# Altium schematic symbol library STguitar.SchLib: 51 symbols
Pins are listed as number, name and electrical type; pins without a type are passive.

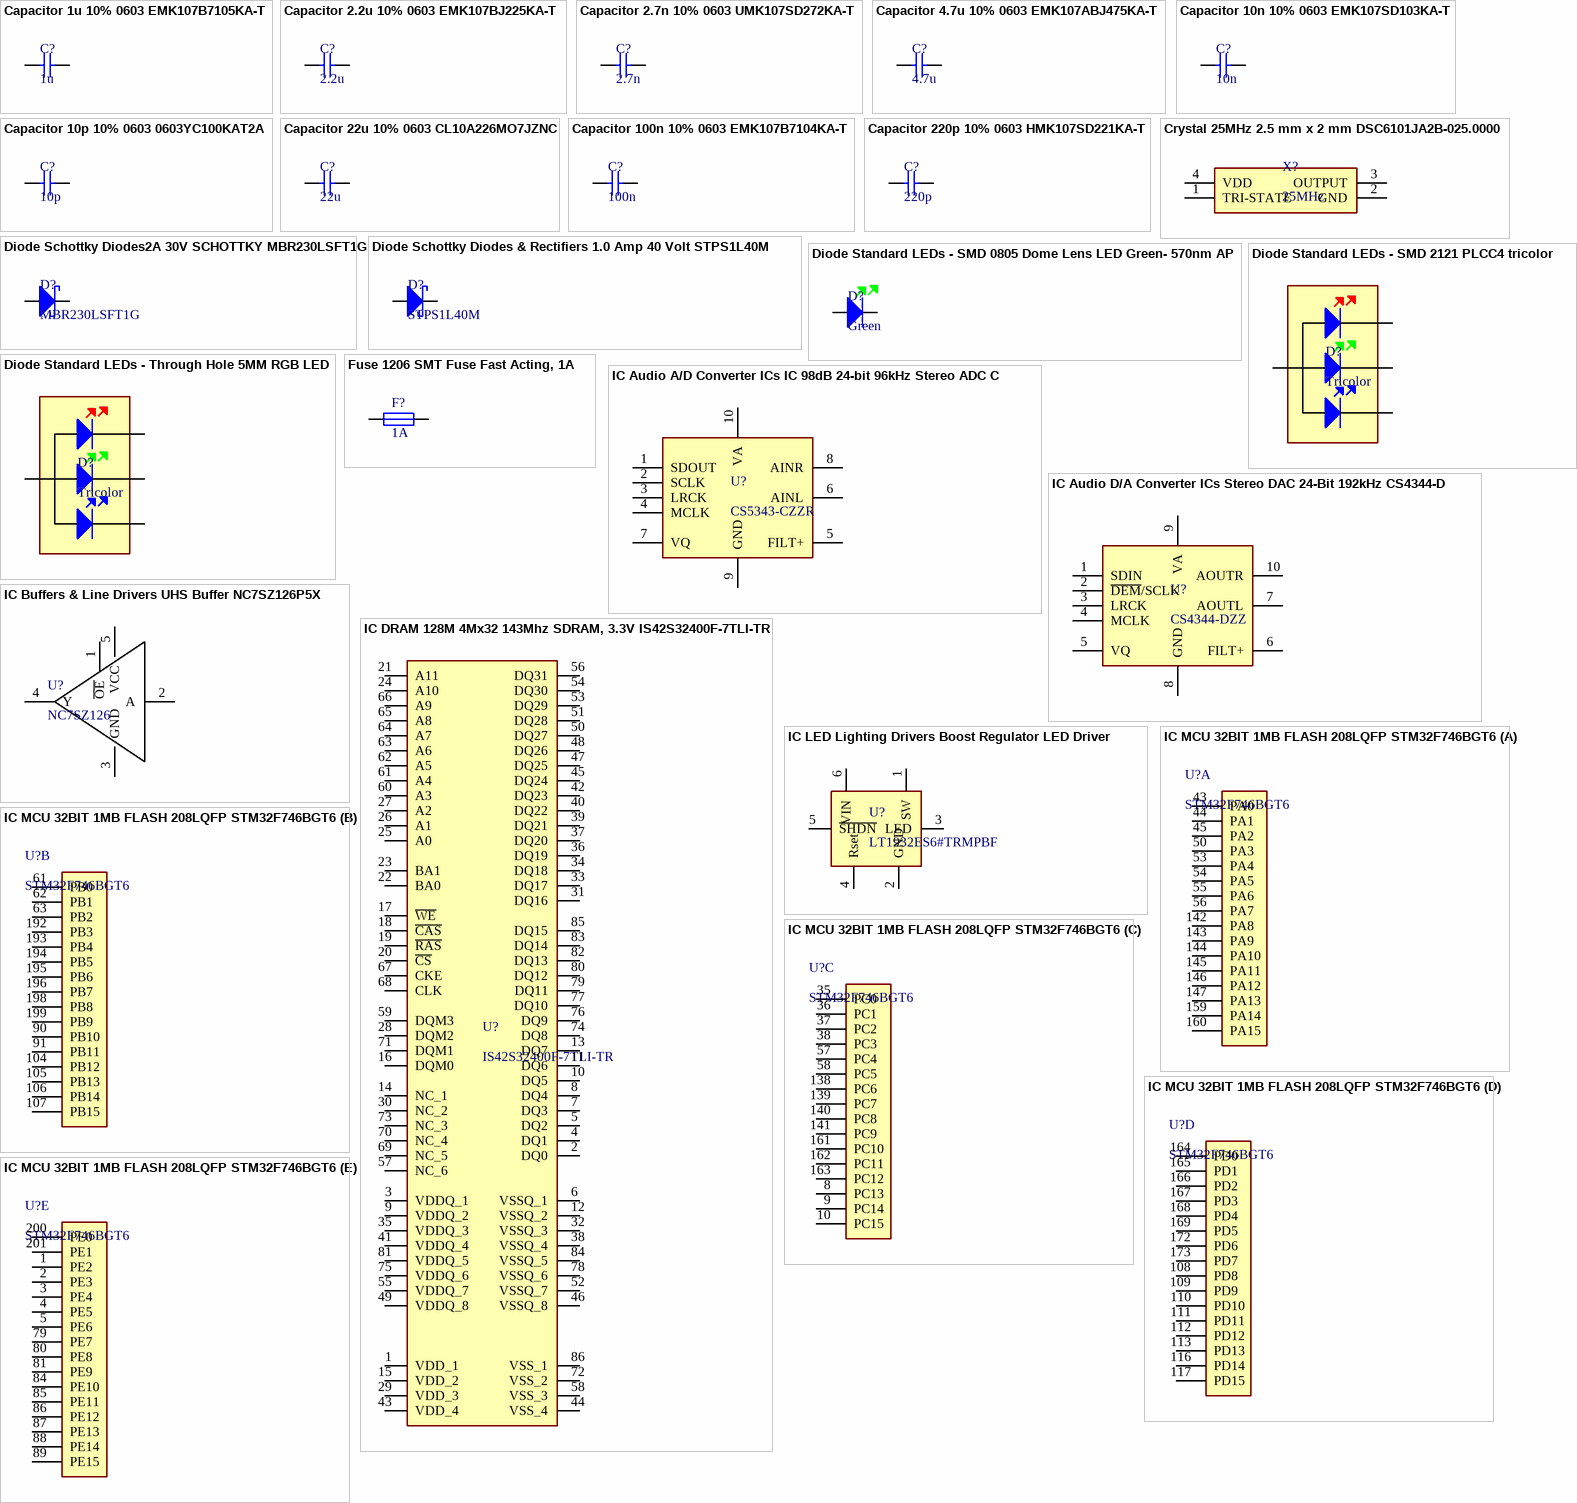
[diagram p0: symbols Capacitor 1u 10% 0603 EMK107B7105KA-T to IC MCU 32BIT 1MB FLASH 208LQFP STM32F746BGT6]

## Capacitor 1u 10% 0603 EMK107B7105KA-T
designator C?, comment 1u
Multilayer Ceramic Capacitors MLCC - SMD/SMT 0603 16VDC 1uF 10% X7R; Manufacturer Part Number: EMK107B7105KA-T; Manufacturer: Taiyo Yuden; Type: SMD; Footprint: 0603; Datasheet: https://pl.mouser.com/datasheet/2/396/mlcc02_e-1307760.pdf
footprint Capacitor 0603
pins: 1, 2

## Capacitor 2.2u 10% 0603 EMK107BJ225KA-T
designator C?, comment 2.2u
Multilayer Ceramic Capacitors MLCC - SMD/SMT 0603 16VDC 2.2uF 10% X5R; Manufacturer Part Number: EMK107BJ225KA-T; Manufacturer: Taiyo Yuden; Type: SMD; Footprint: 0603; Datasheet: https://pl.mouser.com/datasheet/2/396/mlcc02_e-1307760.pdf
footprint Capacitor 0603
pins: 1, 2

## Capacitor 2.7n 10% 0603 UMK107SD272KA-T
designator C?, comment 2.7n
Multilayer Ceramic Capacitors MLCC - SMD/SMT 0603 50VDC 2.7nF 10% Low Distort; Manufacturer Part Number: UMK107SD272KA-T; Manufacturer: Taiyo Yuden; Type: SMD; Footprint: 0603; Datasheet: https://pl.mouser.com/datasheet/2/396/mlcc02_e-1307760.pdf
footprint Capacitor 0603
pins: 1, 2

## Capacitor 4.7u 10% 0603 EMK107ABJ475KA-T
designator C?, comment 4.7u
Multilayer Ceramic Capacitors MLCC - SMD/SMT 0603 16VDC 4.7uF 10% X5R; Manufacturer Part Number: EMK107ABJ475KA-T; Manufacturer: Taiyo Yuden; Type: SMD; Footprint: 0603; Datasheet: https://pl.mouser.com/datasheet/2/396/mlcc02_e-1307760.pdf
footprint Capacitor 0603
pins: 1, 2

## Capacitor 10n 10% 0603 EMK107SD103KA-T
designator C?, comment 10n
Multilayer Ceramic Capacitors MLCC - SMD/SMT 0603 16VDC 10nF 10% Low Distort; Manufacturer Part Number: EMK107SD103KA-T; Manufacturer: Taiyo Yuden; Type: SMD; Footprint: 0603; Datasheet: https://pl.mouser.com/datasheet/2/396/mlcc02_e-1307760.pdf
footprint Capacitor 0603
pins: 1, 2

## Capacitor 10p 10% 0603 0603YC100KAT2A
designator C?, comment 10p
Multilayer Ceramic Capacitors MLCC - SMD/SMT 16V 10pF X7R 0603 10%; Manufacturer Part Number: 0603YC100KAT2A; Manufacturer: AVX; Type: SMD; Footprint: 0603; Datasheet: https://pl.mouser.com/datasheet/2/40/X7RDielectric-777024.pdf
footprint Capacitor 0603
pins: 1, 2

## Capacitor 22u 10% 0603 CL10A226MO7JZNC
designator C?, comment 22u
Multilayer Ceramic Capacitors MLCC - SMD/SMT 22uF+/-20% 16V X5R 1608; Manufacturer Part Number: CL10A226MO7JZNC; Manufacturer: Samsung Electro-Mechanics; Type: SMD; Footprint: 0603; Datasheet: https://pl.mouser.com/datasheet/2/585/MLCC-1837944.pdf
footprint Capacitor 0603
pins: 1, 2

## Capacitor 100n 10% 0603 EMK107B7104KA-T
designator C?, comment 100n
Multilayer Ceramic Capacitors MLCC - SMD/SMT 0603 16VDC 0.1uF 10% X7R; Manufacturer Part Number: EMK107B7104KA-T; Manufacturer: Taiyo Yuden; Type: SMD; Footprint: 0603; Datasheet: https://pl.mouser.com/datasheet/2/396/mlcc02_e-1307760.pdf
footprint Capacitor 0603
pins: 1, 2

## Capacitor 220p 10% 0603 HMK107SD221KA-T
designator C?, comment 220p
Multilayer Ceramic Capacitors MLCC - SMD/SMT 0603 100VDC 220pF 20% NPO MID HIGH VOL; Manufacturer Part Number: HMK107SD221KA-T; Manufacturer: Taiyo Yuden; Type: SMD; Footprint: 0603; Datasheet: https://pl.mouser.com/datasheet/2/396/mlcc06_e-1892430.pdf
footprint Capacitor 0603
pins: 1, 2

## Crystal 25MHz 2.5 mm x 2 mm DSC6101JA2B-025.0000
designator X?, comment 25MHz
Standard Clock Oscillators Ultra-low Power MEMS Oscillator, 2520,-40C to+125C, 25ppm; Manufacturer Part Number: DSC6101JA2B-025.0000; Manufacturer: Microchip Technology; Footprint: 2.5 mm x 2 mm; Type: SMD; Datasheet: https://pl.mouser.com/datasheet/2/268/DSC61xxB-Ultra-Small-Ultra-Low-Power-MEMS-Oscillat-1660330.pdf
footprint Crystal 25MHz
pins: 1 TRI-STATE, 2 GND, 3 OUTPUT, 4 VDD

## Diode Schottky Diodes2A 30V SCHOTTKY MBR230LSFT1G
designator D?, comment MBR230LSFT1G
Schottky Diodes & Rectifiers 2A 30V SCHOTTKY; Manufacturer: ON Semiconductor / Fairchild; Type: SMD; Manufacturer Part Number: MBR230LSFT1G; Footprint: SOD-123FL-2; Datasheet: https://pl.mouser.com/datasheet/2/308/MBR230LSFT1_D-1811015.pdf
footprint Diode SOD123f
pins: 1, 2

## Diode Schottky Diodes & Rectifiers 1.0 Amp 40 Volt STPS1L40M
designator D?, comment STPS1L40M
Schottky Diodes & Rectifiers 1.0 Amp 40 Volt; Manufacturer: ON Semiconductor / Fairchild; Type: SMD; Manufacturer Part Number: STPS1L40M; Footprint: DO-216AA-2; Datasheet: https://pl.mouser.com/datasheet/2/389/cd00003015-1795949.pdf
footprint DO216-AA
pins: 1, 2

## Diode Standard LEDs - SMD 0805 Dome Lens LED Green- 570nm APTD2012LCGCK
designator D?, comment Green
Standard LEDs - SMD 0805 Dome Lens LED Green- 570nm; Manufacturer Part Number: APTD2012LCGCK; Manufacturer: Kingbright; Footprint: 0805; Type: SMD; Datasheet: https://pl.mouser.com/datasheet/2/216/APTD2012LCGCK-1102037.pdf
footprint LED 0805 Green
pins: 1, 2

## Diode Standard LEDs - SMD 2121 PLCC4 tricolor
designator D?, comment Tricolor
Standard LEDs - SMD 2121 PLCC4 tricolor; Manufacturer Part Number: ASMB-LTB2-0A333; Manufacturer: Broadcom / Avago; Footprint: PLCC-4; Type: SMD; Datasheet: https://pl.mouser.com/datasheet/2/678/ASMB-LTB2-0A333-DS101-1827213.pdf
footprint PLCC-4
pins: 1, 2, 3, 4

## Diode Standard LEDs - Through Hole 5MM RGB LED
designator D?, comment Tricolor
Standard LEDs - Through Hole 5MM RGB LED; Manufacturer Part Number: WP154A4SEJ3VBDZGC/CA; Manufacturer: Kingbright; Type: THT; Footprint: T-1 3/4 (5 mm); Datasheet: https://pl.mouser.com/datasheet/2/216/WP154A4SEJ3VBDZGC-CA-1145208.pdf
footprint LED RGB THT
pins: 1, 2, 3, 4

## Fuse 1206 SMT Fuse Fast Acting, 1A
designator F?, comment 1A
Surface Mount Fuses 1206 SMT Fuse Fast Acting, 1A; Manufacturer Part Number: C1F 1; Manufacturer: Bel Fuse; Type: SMD; Footprint: 1206; Datasheet: https://pl.mouser.com/datasheet/2/643/ds-CP-c1f-series-1313112.pdf
footprint Fuse 1206
pins: 1, 2

## IC Audio A/D Converter ICs IC 98dB 24-bit 96kHz Stereo ADC CS5343-CZZR
designator U?, comment CS5343-CZZR
Audio A/D Converter ICs IC 98dB 24-bit 96kHz Stereo ADC; Manufacturer: Cirrus Logic; Manufacturer Part Number: CS5343-CZZR; Footprint: TSSOP-10; Type: SMD; Datasheet: https://pl.mouser.com/datasheet/2/76/CS5343_44_F5-1142054.pdf
footprint TSSOP10
pins: 1 SDOUT, 2 SCLK, 3 LRCK, 4 MCLK, 5 FILT+, 6 AINL, 7 VQ, 8 AINR, 9 GND, 10 VA

## IC Audio D/A Converter ICs Stereo DAC 24-Bit 192kHz CS4344-DZZ
designator U?, comment CS4344-DZZ
Audio D/A Converter ICs Stereo DAC 24-Bit 192kHz; Manufacturer: Cirrus Logic; Manufacturer Part Number: Audio D/A Converter ICs Stereo DAC 24-Bit 192kHz; Footprint: TSSOP-10; Type: SMD; Datasheet: https://pl.mouser.com/datasheet/2/76/CS4344_45_48_F2-1141644.pdf
footprint TSSOP10
pins: 1 SDIN, 2 ~{DEM}/SCLK, 3 LRCK, 4 MCLK, 5 VQ, 6 FILT+, 7 AOUTL, 8 GND, 9 VA, 10 AOUTR

## IC Buffers & Line Drivers UHS Buffer NC7SZ126P5X
designator U?, comment NC7SZ126
Buffers & Line Drivers UHS Buffer; Manufacturer: ON Semiconductor / Fairchild; Manufacturer Part Number: NC7SZ126; Footprint: SC-70-5; Type: SMD; Datasheet: https://pl.mouser.com/datasheet/2/308/NC7SZ126-D-1812272.pdf
footprint SC70-5
pins: 1 ~{OE}, 2 A, 3 GND, 4 Y, 5 VCC

## IC DRAM 128M 4Mx32 143Mhz SDRAM, 3.3V IS42S32400F-7TLI-TR
designator U?, comment IS42S32400F-7TLI-TR
DRAM 128M 4Mx32 143Mhz SDRAM, 3.3v; Manufacturer: ISSI; Manufacturer Part Number: IS42S32400F-7TLI-TR; Footprint: TSOP-86; Type: SMD; Datasheet: https://pl.mouser.com/datasheet/2/198/42-45S32400F-258273.pdf
footprint TSOP86
pins: 1 VDD_1, 2 DQ0, 3 VDDQ_1, 4 DQ1, 5 DQ2, 6 VSSQ_1, 7 DQ3, 8 DQ4, 9 VDDQ_2, 10 DQ5, 11 DQ6, 12 VSSQ_2, 13 DQ7, 14 NC_1, 15 VDD_2, 16 DQM0, 17 ~{WE}, 18 ~{CAS}, 19 ~{RAS}, 20 ~{CS}, 21 A11, 22 BA0, 23 BA1, 24 A10, 25 A0, 26 A1, 27 A2, 28 DQM2, 29 VDD_3, 30 NC_2, 31 DQ16, 32 VSSQ_3, 33 DQ17, 34 DQ18, 35 VDDQ_3, 36 DQ19, 37 DQ20, 38 VSSQ_4, 39 DQ21, 40 DQ22, 41 VDDQ_4, 42 DQ23, 43 VDD_4, 44 VSS_4, 45 DQ24, 46 VSSQ_8, 47 DQ25, 48 DQ26, 49 VDDQ_8, 50 DQ27, 51 DQ28, 52 VSSQ_7, 53 DQ29, 54 DQ30, 55 VDDQ_7, 56 DQ31, 57 NC_6, 58 VSS_3, 59 DQM3, 60 A3, 61 A4, 62 A5, 63 A6, 64 A7, 65 A8, 66 A9, 67 CKE, 68 CLK, 69 NC_5, 70 NC_4, 71 DQM1, 72 VSS_2, 73 NC_3, 74 DQ8, 75 VDDQ_6, 76 DQ9, 77 DQ10, 78 VSSQ_6, 79 DQ11, 80 DQ12, 81 VDDQ_5, 82 DQ13, 83 DQ14, 84 VSSQ_5, 85 DQ15, 86 VSS_1

## IC LED Lighting Drivers Boost Regulator LED Driver
designator U?, comment LT1932ES6#TRMPBF
LED Lighting Drivers Boost Regulator LED Driver; Manufacturer: Analog Devices; Manufacturer Part Number: LT1932ES6#TRMPBF; Footprint: SOT-23-6; Type: SMD; Datasheet: https://pl.mouser.com/datasheet/2/609/1932f-1269198.pdf
footprint SOT23-6
pins: 1 SW, 2 GND, 3 LED, 4 Rset, 5 ~{SHDN}, 6 VIN

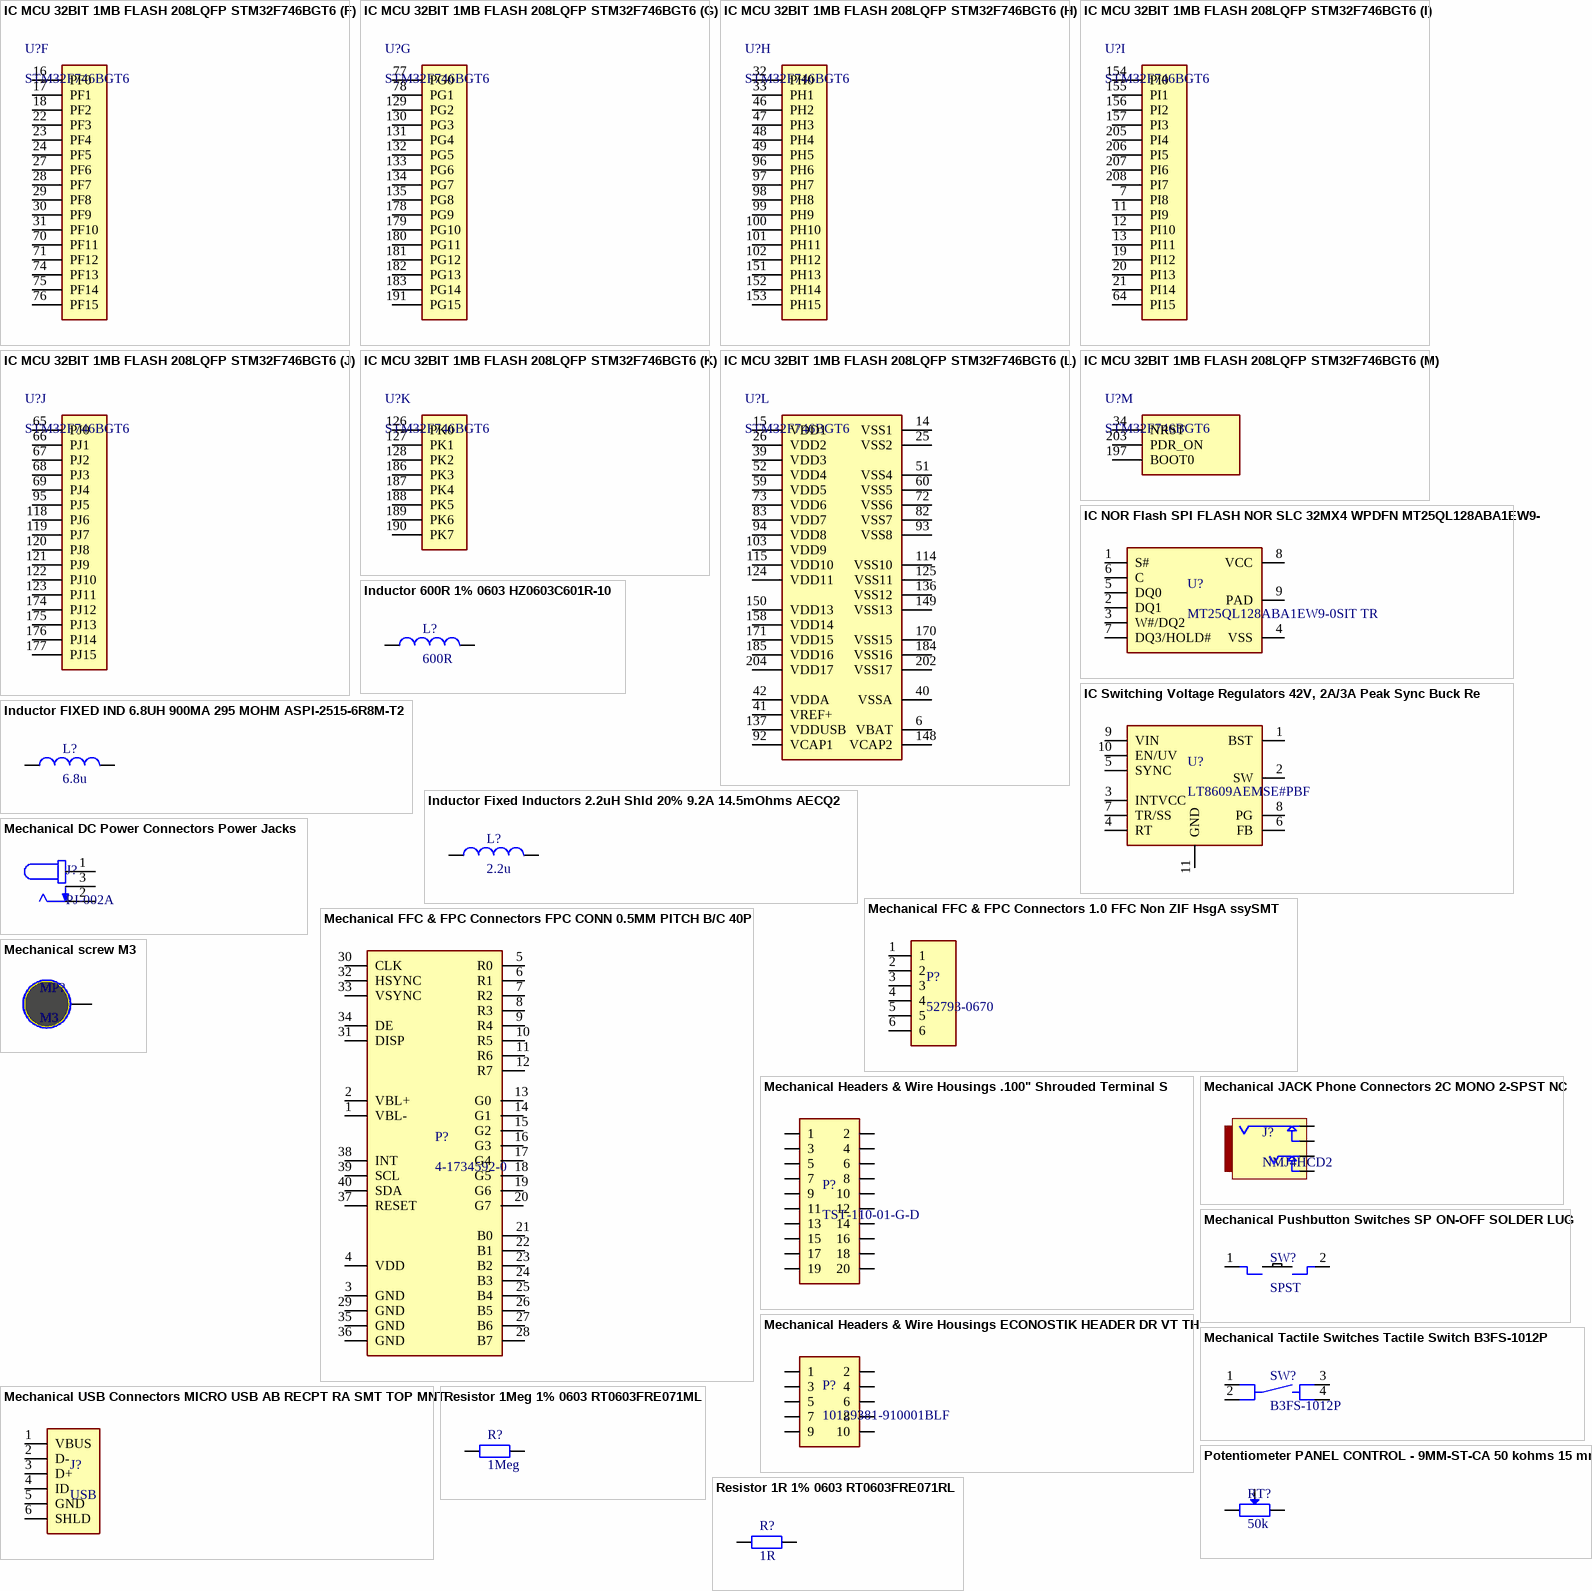
[diagram p1: symbols IC MCU 32BIT 1MB FLASH 208LQFP STM32F746BGT6 to Resistor 1R 1% 0603 RT0603FRE071RL]

## IC MCU 32BIT 1MB FLASH 208LQFP STM32F746BGT6
designator U?, comment STM32F746BGT6
MCU, 32BIT, CORTEX-M7, 216MHZ, LQFP-208; Architecture:ARM Cortex-M7; Program Memory Size:1MB; RAM Memory Size:320KB; CPU Speed:216MHz; No. of I/Os:168; MCU Case Style:LQFP; No. of Pins:208; Embedded Interface Type:CAN, Ethernet, I2C, SPI, UART, USART, USB; Supply Voltage Min:1.7V; Supply Voltage Max:3.6V; Packaging:Each; MSL:MSL 3 - 168 hours; Manufacturer: STMicroelectronics; Manufacturer Part Number: STM32F746BGT6; Footprint: LQFP-208; Type: SMD; Datasheet: https://pl.mouser.com/datasheet/2/389/dm00166116-1798632.pdf
footprint TQFP208
part A pins: 43 PA0, 44 PA1, 45 PA2, 50 PA3, 53 PA4, 54 PA5, 55 PA6, 56 PA7, 142 PA8, 143 PA9, 144 PA10, 145 PA11, 146 PA12, 147 PA13, 159 PA14, 160 PA15
part B pins: 61 PB0, 62 PB1, 63 PB2, 90 PB10, 91 PB11, 104 PB12, 105 PB13, 106 PB14, 107 PB15, 192 PB3, 193 PB4, 194 PB5, 195 PB6, 196 PB7, 198 PB8, 199 PB9
part C pins: 8 PC13, 9 PC14, 10 PC15, 35 PC0, 36 PC1, 37 PC2, 38 PC3, 57 PC4, 58 PC5, 138 PC6, 139 PC7, 140 PC8, 141 PC9, 161 PC10, 162 PC11, 163 PC12
part D pins: 108 PD8, 109 PD9, 110 PD10, 111 PD11, 112 PD12, 113 PD13, 116 PD14, 117 PD15, 164 PD0, 165 PD1, 166 PD2, 167 PD3, 168 PD4, 169 PD5, 172 PD6, 173 PD7
part E pins: 1 PE2, 2 PE3, 3 PE4, 4 PE5, 5 PE6, 79 PE7, 80 PE8, 81 PE9, 84 PE10, 85 PE11, 86 PE12, 87 PE13, 88 PE14, 89 PE15, 200 PE0, 201 PE1
part F pins: 16 PF0, 17 PF1, 18 PF2, 22 PF3, 23 PF4, 24 PF5, 27 PF6, 28 PF7, 29 PF8, 30 PF9, 31 PF10, 70 PF11, 71 PF12, 74 PF13, 75 PF14, 76 PF15
part G pins: 77 PG0, 78 PG1, 129 PG2, 130 PG3, 131 PG4, 132 PG5, 133 PG6, 134 PG7, 135 PG8, 178 PG9, 179 PG10, 180 PG11, 181 PG12, 182 PG13, 183 PG14, 191 PG15
part H pins: 32 PH0, 33 PH1, 46 PH2, 47 PH3, 48 PH4, 49 PH5, 96 PH6, 97 PH7, 98 PH8, 99 PH9, 100 PH10, 101 PH11, 102 PH12, 151 PH13, 152 PH14, 153 PH15
part I pins: 7 PI8, 11 PI9, 12 PI10, 13 PI11, 19 PI12, 20 PI13, 21 PI14, 64 PI15, 154 PI0, 155 PI1, 156 PI2, 157 PI3, 205 PI4, 206 PI5, 207 PI6, 208 PI7
part J pins: 65 PJ0, 66 PJ1, 67 PJ2, 68 PJ3, 69 PJ4, 95 PJ5, 118 PJ6, 119 PJ7, 120 PJ8, 121 PJ9, 122 PJ10, 123 PJ11, 174 PJ12, 175 PJ13, 176 PJ14, 177 PJ15
part K pins: 126 PK0, 127 PK1, 128 PK2, 186 PK3, 187 PK4, 188 PK5, 189 PK6, 190 PK7
part L pins: 6 VBAT, 14 VSS1, 15 VDD1, 25 VSS2, 26 VDD2, 39 VDD3, 40 VSSA, 41 VREF+, 42 VDDA, 51 VSS4, 52 VDD4, 59 VDD5, 60 VSS5, 72 VSS6, 73 VDD6, 82 VSS7, 83 VDD7, 92 VCAP1, 93 VSS8, 94 VDD8, 103 VDD9, 114 VSS10, 115 VDD10, 124 VDD11, 125 VSS11, 136 VSS12, 137 VDDUSB, 148 VCAP2, 149 VSS13, 150 VDD13, 158 VDD14, 170 VSS15, 171 VDD15, 184 VSS16, 185 VDD16, 202 VSS17, 204 VDD17
part M pins: 34 NRST, 197 BOOT0, 203 PDR_ON

## IC NOR Flash SPI FLASH NOR SLC 32MX4 WPDFN MT25QL128ABA1EW9-0SIT TR
designator U?, comment MT25QL128ABA1EW9-0SIT TR
NOR Flash SPI FLASH NOR SLC 32MX4 WPDFN; Manufacturer: Micron; Manufacturer Part Number: MT25QL128ABA1EW9-0SIT TR; Footprint: WDFN-8; Type: SMD; Datasheet: https://pl.mouser.com/datasheet/2/671/MT25Q_QLHS_L_128_ABA_0-1287003.pdf
footprint WDFN8
pins: 1 S#, 2 DQ1, 3 W#/DQ2, 4 VSS, 5 DQ0, 6 C, 7 DQ3/HOLD#, 8 VCC, 9 PAD

## IC Switching Voltage Regulators 42V, 2A/3A Peak Sync Buck Reg w/ 2.5uA LT8609AEMSE#PBF
designator U?, comment LT8609AEMSE#PBF
Switching Voltage Regulators 42V, 2A Synchronous Step-Down Regulator with 2.5uA Quiescent Current; Manufacturer: Analog Devices; Manufacturer Part Number: LT8609AEMSE#PBF; Footprint: MSOP-10; Type: SMD; Datasheet: https://pl.mouser.com/datasheet/2/609/LT8609_8609A_8609B-1551398.pdf
footprint MSOP-10
pins: 1 BST, 2 SW, 3 INTVCC, 4 RT, 5 SYNC, 6 FB, 7 TR/SS, 8 PG, 9 VIN, 10 EN/UV, 11 GND

## Inductor 600R 1% 0603 HZ0603C601R-10
designator L?, comment 600R
Ferrite Beads 600ohms 100MHz 300mA Monolithic 0603 SMD; Manufacturer Part Number: HZ0603C601R-10; Manufacturer: Laird Performance Materials; Footprint: 0603; Type: SMD; Datasheet: https://www.mouser.com/catalog/specsheets/Laird_10092020_Laird%20MCP%20Catalog-EMI%20Filtering%20and%20RF%20Inductor%20Sep%202020.pdf
footprint Inductor 0603
pins: 1, 2

## Inductor FIXED IND 6.8UH 900MA 295 MOHM ASPI-2515-6R8M-T2
designator L?, comment 6.8u
Fixed Inductors FIXED IND 6.8UH 900MA 295 MOHM; Manufacturer Part Number: ASPI-2515-6R8M-T2; Manufacturer: ABRACON; Type: SMD; Footprint: 2.5 mm x 2 mm; Datasheet: https://pl.mouser.com/datasheet/2/3/ASPI_2515-1774975.pdf
footprint Inductor ASPI
pins: 1, 2

## Inductor Fixed Inductors 2.2uH Shld 20% 9.2A 14.5mOhms AECQ2
designator L?, comment 2.2u
Fixed Inductors 2.2uH Shld 20% 9.2A 14.5mOhms AECQ2; Manufacturer Part Number: XAL5030-222MEB; Manufacturer: Coilcraft; Type: SMD; Footprint: 5.28 mm x 3.1 mm x 5.48 mm; Datasheet: https://pl.mouser.com/datasheet/2/597/xal50xx-270657.pdf
footprint Inductor XAL50xx
pins: 1, 2

## Mechanical DC Power Connectors Power Jacks
designator J?, comment PJ-002A
DC Power Connectors Power Jacks; Manufacturer Part Number: PJ-002A; Manufacturer: https://pl.mouser.com/datasheet/2/670/pj_002a-1778764.pdf; Footprint: 2 mm x 6.5 mm; Type: THT; Datasheet: https://pl.mouser.com/datasheet/2/670/pj_002a-1778764.pdf
footprint Mechanical CUI_PJ-002A
pins: 1, 2, 3

## Mechanical FFC & FPC Connectors 1.0 FFC Non ZIF HsgA ssySMT 6CktEmbsTpPkg 52793-0670
designator P?, comment 52793-0670
FFC & FPC Connectors 1.0 FFC Non ZIF HsgA ssySMT 6CktEmbsTpPkg; Manufacturer: Molex; Manufacturer Part Number: 52793-0670; Footprint: 6 Position; Type: SMD; Datasheet: https://pl.mouser.com/datasheet/2/276/0527930670_FFC_FPC_CONNECTORS-170651.pdf
footprint Mechanical FFC 1mm 6 pin
pins: 1, 2, 3, 4, 5, 6

## Mechanical FFC & FPC Connectors FPC CONN 0.5MM PITCH B/C 40P 4-1734592-0
designator P?, comment 4-1734592-0
FFC & FPC Connectors FPC CONN 0.5MM PITCH B/C 40P; Manufacturer: TE Connectivity; Manufacturer Part Number: 4-1734592-0; Footprint: 40 Position; Type: SMD; Datasheet: https://www.te.com/commerce/DocumentDelivery/DDEController?Action=srchrtrv&DocNm=1734592&DocType=Customer+Drawing&DocLang=English&PartCntxt=4-1734592-0&DocFormat=pdf
footprint Mechanical FFC 0.5mm 40pin
pins: 1 VBL-, 2 VBL+, 3 GND, 4 VDD, 5 R0, 6 R1, 7 R2, 8 R3, 9 R4, 10 R5, 11 R6, 12 R7, 13 G0, 14 G1, 15 G2, 16 G3, 17 G4, 18 G5, 19 G6, 20 G7, 21 B0, 22 B1, 23 B2, 24 B3, 25 B4, 26 B5, 27 B6, 28 B7, 29 GND, 30 CLK, 31 DISP, 32 HSYNC, 33 VSYNC, 34 DE, 35 GND, 36 GND, 37 RESET, 38 INT, 39 SCL, 40 SDA

## Mechanical Headers & Wire Housings .100" Shrouded Terminal Strip, Cable Mate TST-110-01-G-D
designator P?, comment TST-110-01-G-D
Headers & Wire Housings .100" Shrouded Terminal Strip, Cable Mate; Manufacturer: Samtec; Manufacturer Part Number: TST-110-01-G-D; Footprint: 20 Position; Type: THT; Datasheet: https://pl.mouser.com/datasheet/2/527/tst_th-1345646.pdf
footprint 20 pin 2.54mm male THT JTAG
pins: 1, 2, 3, 4, 5, 6, 7, 8, 9, 10, 11, 12, 13, 14, 15, 16, 17, 18, 19, 20

## Mechanical Headers & Wire Housings ECONOSTIK HEADER DR VT TH 2X5
designator P?, comment 10129381-910001BLF
Headers & Wire Housings ECONOSTIK HEADER DR VT TH 2X5; Manufacturer: Amphenol FCI; Manufacturer Part Number: 10129381-910001BLF; Footprint: 10 Position; Type: THT; Datasheet: https://www.amphenol-icc.com/media/wysiwyg/files/documentation/datasheet/boardwiretoboard/bwb_econostik_254headers.pdf
footprint 10 PIN THT
pins: 1, 2, 3, 4, 5, 6, 7, 8, 9, 10

## Mechanical JACK Phone Connectors 2C MONO 2-SPST NC
designator J?, comment NMJ4HCD2
Phone Connectors 2C MONO 2-SPST NC; Manufacturer: Neutrik; Manufacturer Part Number: NMJ4HCD2; Footprint: Solder Pin; Type: THT; Datasheet: https://pl.mouser.com/datasheet/2/289/nmj4hcd2-1853956.pdf
footprint Mechanical NMJ4HCD2
pins: 1 S, 2 SN, 3 T, 4 TN

## Mechanical Pushbutton Switches SP ON-OFF SOLDER LUG
designator SW?, comment SPST
Pushbutton Switches SP ON-OFF SOLDER LUG; Manufacturer Part Number: 64111210; Manufacturer: Carling Technologies; Footprint: THT; Type: PANEL; Datasheet: https://pl.mouser.com/datasheet/2/65/641-Series_Details__26_COS_020513-225963.pdf
footprint Mechanical footswitch SPST
pins: 1, 2

## Mechanical screw M3
designator MP?, comment M3
footprint Mechanical screw M3
pins: 0

## Mechanical Tactile Switches Tactile Switch B3FS-1012P
designator SW?, comment B3FS-1012P
Tactile Switches Tactile Switch; Manufacturer: Omron Electronics; Manufacturer Part Number: B3FS-1012P; Footprint: 6 mm x 6 mm; Type: SMD; Datasheet: https://pl.mouser.com/datasheet/2/307/omron_B3FS-1189765.pdf
footprint Mechanical Tacitile 6x6
pins: 1, 2, 3, 4

## Mechanical USB Connectors MICRO USB AB RECPT RA SMT TOP MNT ASSY
designator J?, comment USB
USB Connectors MICRO USB AB RECPT RA SMT TOP MNT ASSY; Manufacturer Part Number: 47590-0001; Manufacturer: Molex; Footprint: 5 Contact; Type: SMD/THT; Datasheet: https://pl.mouser.com/datasheet/2/276/0475900001_IO_CONNECTORS-704847.pdf
footprint Mechanical microUSB 47590-0001
pins: 1 VBUS, 2 D-, 3 D+, 4 ID, 5 GND, 6 SHLD

## Potentiometer PANEL CONTROL - 9MM-ST-CA 50 kohms 15 mm
designator RT?, comment 50k
PANEL CONTROL - 9MM-ST-CA 50 kohms 15 mm; Manufacturer Part Number: PTV09A-4015U-B503; Manufacturer: Bourns; Footprint: PTV09; Type: THT; Datasheet: https://pl.mouser.com/datasheet/2/54/ptv09-777818.pdf
footprint PTV9
pins: 1, 2, 3

## Resistor 1Meg 1% 0603 RT0603FRE071ML
designator R?, comment 1Meg
Thin Film Resistors - SMD 1M OHM 1% 50PPM 1/10W; Manufacturer Part Number: RT0603FRE071ML; Manufacturer: Yageo; Footprint: 0603; Type: SMD; Datasheet: https://pl.mouser.com/datasheet/2/447/PYu_RT_1_to_0_01_RoHS_L_11-1669912.pdf
footprint Resistor 0603
pins: 1, 2

## Resistor 1R 1% 0603 RT0603FRE071RL
designator R?, comment 1R
Thin Film Resistors - SMD 1/10W 1 ohm ohm 50 ppm; Manufacturer Part Number: RT0603FRE071RL; Manufacturer: Yageo; Footprint: 0603; Type: SMD; Datasheet: https://pl.mouser.com/datasheet/2/447/PYu_RT_1_to_0_01_RoHS_L_11-1669912.pdf
footprint Resistor 0603
pins: 1, 2

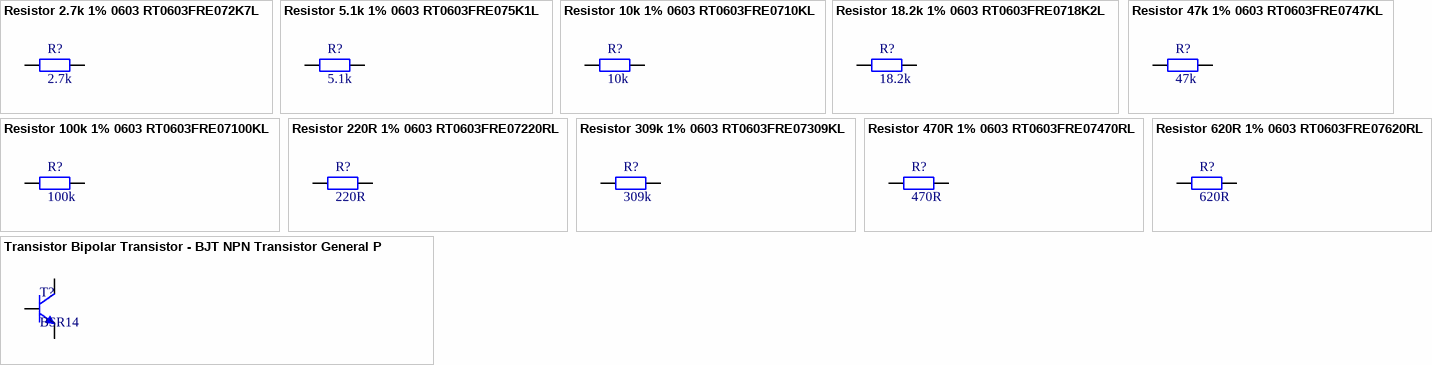
[diagram p2: symbols Resistor 2.7k 1% 0603 RT0603FRE072K7L to Transistor Bipolar Transistor - BJT NPN Transistor General Purpose]

## Resistor 2.7k 1% 0603 RT0603FRE072K7L
designator R?, comment 2.7k
Thin Film Resistors - SMD 1/10W 2.7K ohm 1% 50ppm; Manufacturer Part Number: RT0603FRE072K7L; Manufacturer: Yageo; Footprint: 0603; Type: SMD; Datasheet: https://pl.mouser.com/datasheet/2/447/PYu_RT_1_to_0_01_RoHS_L_11-1669912.pdf
footprint Resistor 0603
pins: 1, 2

## Resistor 5.1k 1% 0603 RT0603FRE075K1L
designator R?, comment 5.1k
Thin Film Resistors - SMD 1/10W 5.1K ohm 1% 50ppm; Manufacturer Part Number: RT0603FRE075K1L; Manufacturer: Yageo; Footprint: 0603; Type: SMD; Datasheet: https://pl.mouser.com/datasheet/2/447/PYu_RT_1_to_0_01_RoHS_L_11-1669912.pdf
footprint Resistor 0603
pins: 1, 2

## Resistor 10k 1% 0603 RT0603FRE0710KL
designator R?, comment 10k
Thin Film Resistors - SMD 10K ohm 1% 1/10W; Manufacturer Part Number: RT0603FRE0710KL; Manufacturer: Yageo; Footprint: 0603; Type: SMD; Datasheet: https://pl.mouser.com/datasheet/2/447/PYu_RT_1_to_0_01_RoHS_L_11-1669912.pdf
footprint Resistor 0603
pins: 1, 2

## Resistor 18.2k 1% 0603 RT0603FRE0718K2L
designator R?, comment 18.2k
Thin Film Resistors - SMD 1/10W 18.2K ohm 1% 50ppm; Manufacturer Part Number: RT0603FRE0718K2L; Manufacturer: Yageo; Footprint: 0603; Type: SMD; Datasheet: https://pl.mouser.com/datasheet/2/447/PYu_RT_1_to_0_01_RoHS_L_11-1669912.pdf
footprint Resistor 0603
pins: 1, 2

## Resistor 47k 1% 0603 RT0603FRE0747KL
designator R?, comment 47k
Thin Film Resistors - SMD 1/10W 47K ohm 1% 50ppm; Manufacturer Part Number: RT0603FRE0747KL; Manufacturer: Yageo; Footprint: 0603; Type: SMD; Datasheet: https://pl.mouser.com/datasheet/2/447/PYu_RT_1_to_0_01_RoHS_L_11-1669912.pdf
footprint Resistor 0603
pins: 1, 2

## Resistor 100k 1% 0603 RT0603FRE07100KL
designator R?, comment 100k
Thin Film Resistors - SMD 100K ohm 1% 1/10W; Manufacturer Part Number: RT0603FRE07100KL; Manufacturer: Yageo; Footprint: 0603; Type: SMD; Datasheet: https://pl.mouser.com/datasheet/2/447/PYu_RT_1_to_0_01_RoHS_L_11-1669912.pdf
footprint Resistor 0603
pins: 1, 2

## Resistor 220R 1% 0603 RT0603FRE07220RL
designator R?, comment 220R
Thin Film Resistors - SMD 1/10W 220 ohm 1% 50ppm; Manufacturer Part Number: RT0603FRE07220RL; Manufacturer: Yageo; Footprint: 0603; Type: SMD; Datasheet: https://pl.mouser.com/datasheet/2/447/PYu_RT_1_to_0_01_RoHS_L_11-1669912.pdf
footprint Resistor 0603
pins: 1, 2

## Resistor 309k 1% 0603 RT0603FRE07309KL
designator R?, comment 309k
Thin Film Resistors - SMD 1/10W 309K ohm 1% 50ppm; Manufacturer Part Number: RT0603FRE07309KL; Manufacturer: Yageo; Footprint: 0603; Type: SMD; Datasheet: https://pl.mouser.com/datasheet/2/447/PYu_RT_1_to_0_01_RoHS_L_11-1669912.pdf
footprint Resistor 0603
pins: 1, 2

## Resistor 470R 1% 0603 RT0603FRE07470RL
designator R?, comment 470R
Thin Film Resistors - SMD 1/10W 470 ohm 1% 50ppm; Manufacturer Part Number: RT0603FRE07470RL; Manufacturer: Yageo; Footprint: 0603; Type: SMD; Datasheet: https://pl.mouser.com/datasheet/2/447/PYu_RT_1_to_0_01_RoHS_L_11-1669912.pdf
footprint Resistor 0603
pins: 1, 2

## Resistor 620R 1% 0603 RT0603FRE07620RL
designator R?, comment 620R
Thin Film Resistors - SMD 620 OHM 1% 50PPM 1/10W; Manufacturer Part Number: RT0603FRE07620RL; Manufacturer: Yageo; Footprint: 0603; Type: SMD; Datasheet: https://pl.mouser.com/datasheet/2/447/PYu_RT_1_to_0_01_RoHS_L_11-1669912.pdf
footprint Resistor 0603
pins: 1, 2

## Transistor Bipolar Transistor - BJT NPN Transistor General Purpose
designator T?, comment BSR14
Bipolar Transistors - BJT NPN Transistor General Purpose; Manufacturer: ON Semiconductor / Fairchild; Type: SMD; Manufacturer Part Number: BSR14; Footprint: SOT-23-3; Datasheet: https://pl.mouser.com/datasheet/2/308/BSR14-D-1802416.pdf
footprint SOT23-3 (SOT23, 3-Leads, Body 2.9x1.3mm, Pitch 0.95mm, Lead Span 2.5mm, IPC High Density)
pins: 1, 2, 3